# Altium footprint library Inductor.PcbLib: 1 footprints
Each footprint in its own frame and in the unit in brackets; x right, y up, seen from the top. Pads: shape width x height; smd on the part's side, far side on the other; paste and mask are expansions set on the pad; w line width, h text height; cw(c..) or ccw(c..) is an arc to the next point about the centre after c.
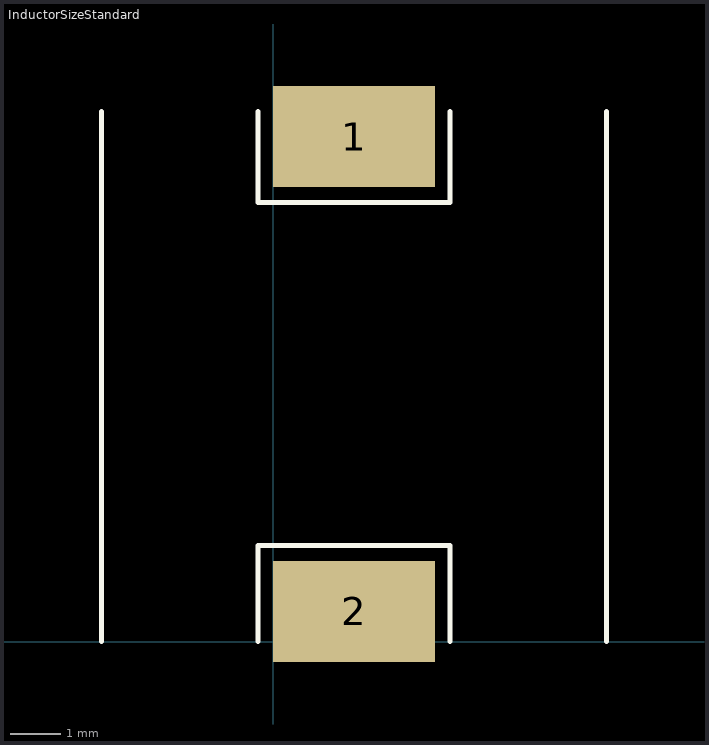
[diagram p0: the footprint, top view; thin cyan lines are the x and y axes]

## InductorSizeStandard [mm]
pads (2):
  rect 3.2x2 smd: 1(1.6,10) 2(1.6,0.6)
Top Overlay:
  lines w0.1: -3.4,0 -3.4,10.5 ; -0.3,0 -0.3,1.9 3.5,1.9 3.5,0 ; -0.3,10.5 -0.3,8.7 3.5,8.7 3.5,10.5 ; 6.6,0 6.6,10.5
3D body: height 4.5, standoff 0.3, extent -3.4,0.1 6.5,10.4